# Altium schematic symbol library stm32.SchLib: 1 symbol
Pins are listed as number, name and electrical type; pins without a type are passive.

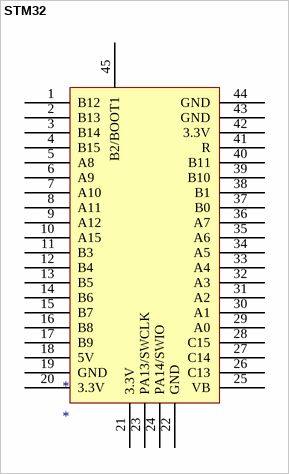
[diagram p0: symbol STM32]

## STM32
designator *
footprint STM32 - duplicate
pins: 1 B12, 2 B13, 3 B14, 4 B15, 5 A8, 6 A9, 7 A10, 8 A11, 9 A12, 10 A15, 11 B3, 12 B4, 13 B5, 14 B6, 15 B7, 16 B8, 17 B9, 18 5V, 19 GND, 20 3.3V, 21 3.3V, 22 GND, 23 PA13/SWCLK, 24 PA14/SWIO, 25 VB, 26 C13, 27 C14, 28 C15, 29 A0, 30 A1, 31 A2, 32 A3, 33 A4, 34 A5, 35 A6, 36 A7, 37 B0, 38 B1, 39 B10, 40 B11, 41 R, 42 3.3V, 43 GND, 44 GND, 45 B2/BOOT1